# EAGLE library part AS5048A-HTSP (library AS5048A-HTSP)
AS5048B Series 360° 3.3 / 5 V 14 bit Magnetic Rotary Encoder - TSSOP-14
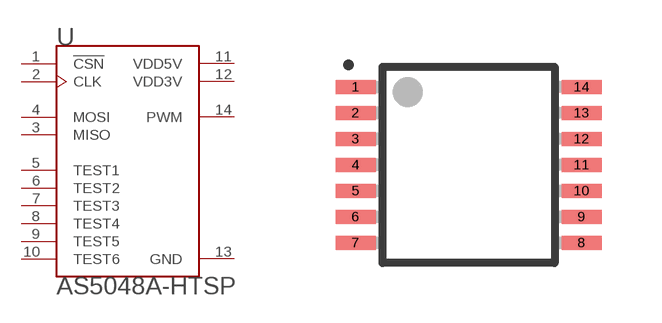
[diagram p0: symbol with the pads of SOP65P640X120-14N; footprint SOP65P640X120-14N]

Designator prefix U

## AS5048A-HTSP (Availability: Unavailable; Description: Ic Encoder Rotary 14-Tssop; MF: ams; MP: AS5048A-HTSP; Package: TSSOP-14 ams; Price: None)  [SOP65P640X120-14N]
1  !CSN  in
2  CLK  in
3  MISO
4  MOSI  in
5  TEST1
6  TEST2
7  TEST3
8  TEST4
9  TEST5
10  TEST6
11  VDD5V  pwr
12  VDD3V  pwr
13  GND  pas
14  PWM  out

## Footprint SOP65P640X120-14N (pad centres in mm)
smd 1 x 0.35: 1 -2.825,1.95; 2 -2.825,1.3; 3 -2.825,0.65; 4 -2.825,0; 5 -2.825,-0.65; 6 -2.825,-1.3; 7 -2.825,-1.95; 8 2.825,-1.95; 9 2.825,-1.3; 10 2.825,-0.65; 11 2.825,0; 12 2.825,0.65; 13 2.825,1.3; 14 2.825,1.95